# Altium footprint library STM32F407VET6mini核心板--器件PCB封装库.PcbLib: 17 footprints (part 2 of 2)
Each footprint in its own frame and in the unit in brackets; x right, y up, seen from the top. Pads: shape width x height; smd on the part's side, far side on the other; paste and mask are expansions set on the pad; w line width, h text height; cw(c..) or ccw(c..) is an arc to the next point about the centre after c.
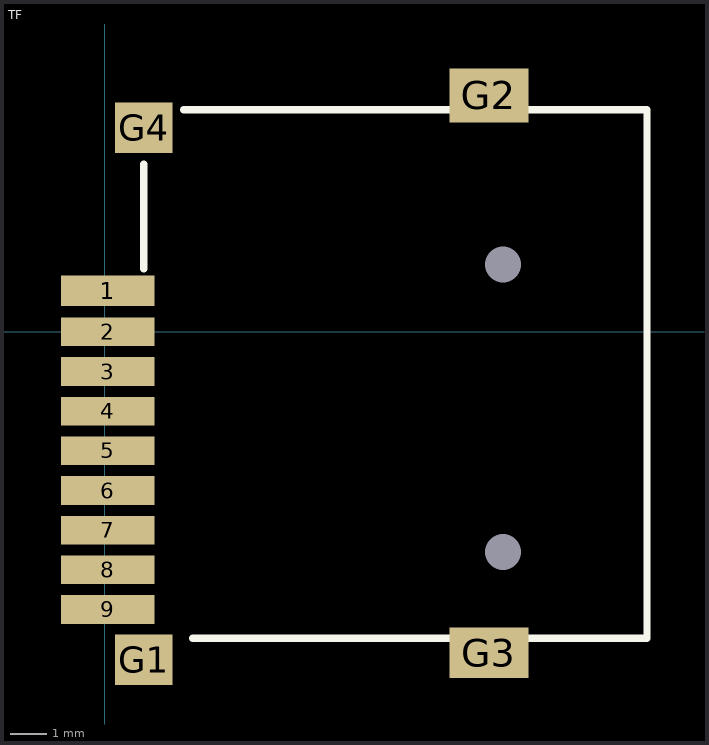
[diagram p1: the footprint, top view; thin cyan lines are the x and y axes]

## TF [mm]
pads (15):
  rect 2.6x0.85 smd: 1(0.088,1.143)
  rect 2.6x0.8 smd: 2(0.088,0.002) 3(0.088,-1.101) 4(0.088,-2.204) 5(0.088,-3.307) 6(0.088,-4.411) 7(0.088,-5.514) 8(0.088,-6.617) 9(0.088,-7.72)
  round 0 hole 1: 11(11.088,1.88) 12(11.088,-6.12)
  rect 1.6x1.4 smd: G1(1.088,-9.12) G4(1.088,5.68)
  rect 2.2x1.5 smd: G2(10.688,6.58)
  rect 2.2x1.4 smd: G3(10.688,-8.92)
Top Overlay:
  lines w0.203: 1.088,1.751 1.088,4.672 ; 2.198,6.18 15.088,6.18 15.088,-8.52 2.452,-8.52